# Altium schematic symbol library 6-32_Stand_Off.SchLib: 1 symbol
Pins are listed as number, name and electrical type; pins without a type are passive.

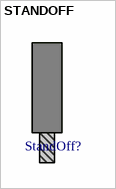
[diagram p0: symbol STANDOFF]

## STANDOFF
designator StandOff?, comment 6-32 Stand Off  (value not drawn)
HEX STANDOFF 6-32 ALUMINUM 3/4"; Manufacturer Part Number: 8416; Manufacturer: Keystone Electronics; Threaded/Unthreaded: Threaded; Gender: Male, Female; Screw, Thread Size: #6-32; Between Board Height: 0.750" (19.05mm) 3/4"; Plating: Iridite; Description: STDOFF HEX M/F 6-32 .750"L ALUM; Supplier 1: Digi-Key; Family: Board Spacers, Standoffs; Series: -; Type: Hex Standoff; Diameter - Inside: -; Diameter - Outside: 0.250" (6.35mm) 1/4" Hex; Length - Overall: 1.000" (25.40mm) 1"; Features: -; Material: Aluminum; Color: -; Weight: -; ComponentLink1URL: https://datasheet.ciiva.com/5225/m60-2p70-311182-5225146.pdf; ComponentLink1Description: https://datasheet.ciiva.com/5225/m60-2p70-311182-5225146.pdf; ComponentLink2URL: https://datasheet.ciiva.com/14533/70181845-14533167.pdf; ComponentLink2Description: https://datasheet.ciiva.com/14533/70181845-14533167.pdf; Supplier Part Number 1: 36-8416-ND; Stock 1: 20629; Pricing 1: 1=0.74, 10=0.55, 50=0.44, 100=0.4217, 250=0.385, 1000=0.3079, 2500=0.2751, 5000=0.2659 (USD); Category: Hardware, Fasteners, Accessories